# Altium footprint library Daxxn_Displays.PcbLib: 9 footprints
Each footprint in its own frame and in the unit in brackets; x right, y up, seen from the top. Pads: shape width x height; smd on the part's side, far side on the other; paste and mask are expansions set on the pad; w line width, h text height; cw(c..) or ccw(c..) is an arc to the next point about the centre after c.
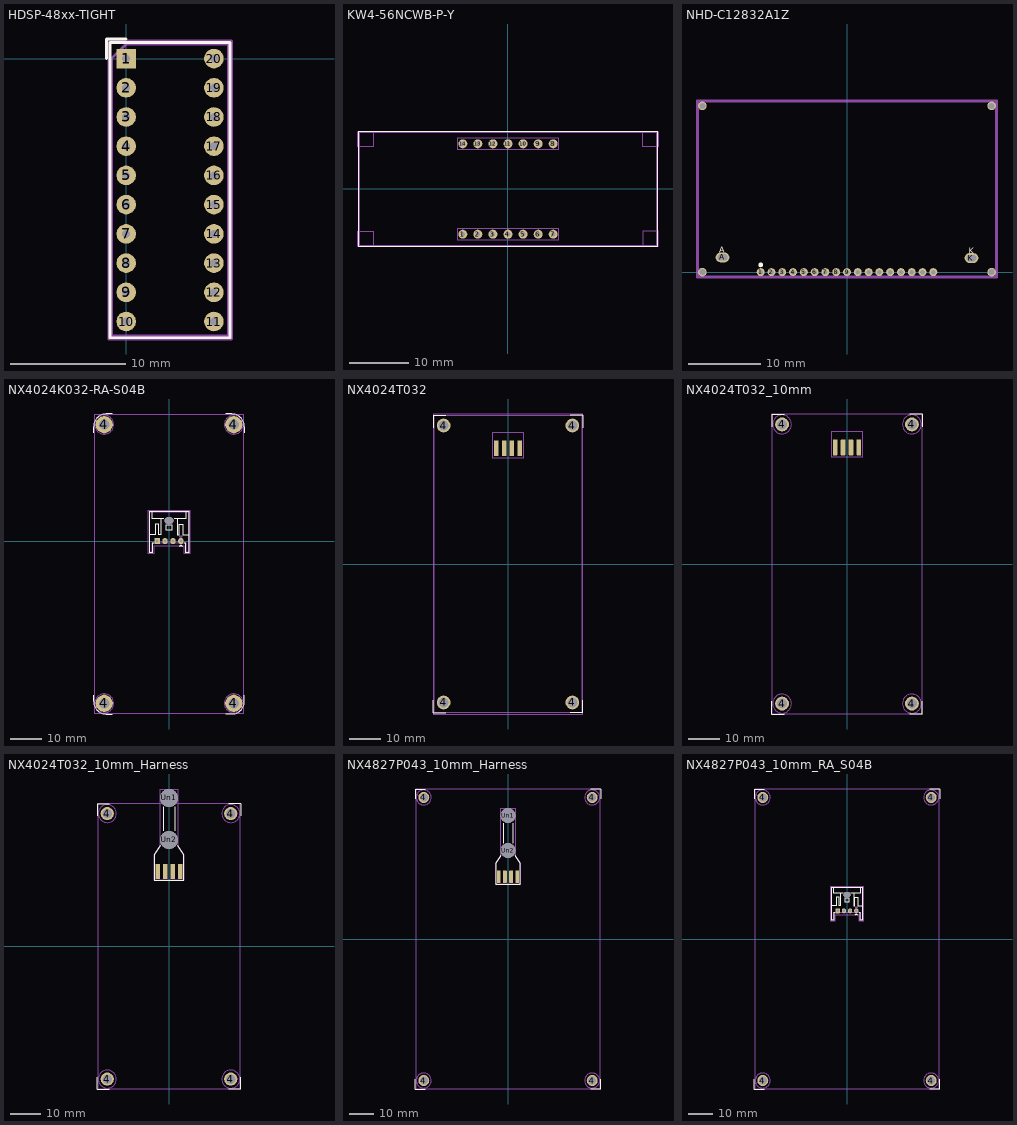
[diagram p0: the footprints below, top view; thin cyan lines are the x and y axes]

## HDSP-48xx-TIGHT [mm]
pads (20):
  rect 1.7x1.7 hole 0.7: 1(0,0)
  round 1.7 hole 0.7: 2(0,-2.54) 3(0,-5.08) 4(0,-7.62) 5(0,-10.16) 6(0,-12.7) 7(0,-15.24) 8(0,-17.78) 9(0,-20.32) 10(0,-22.86) 11(7.62,-22.86) 12(7.62,-20.32) 13(7.62,-17.78) 14(7.62,-15.24) 15(7.62,-12.7) 16(7.62,-10.16) 17(7.62,-7.62) 18(7.62,-5.08) 19(7.62,-2.54) 20(7.62,0)
F.SilkS:
  lines w0.254: -1.7,0 -1.7,1.7 0,1.7 ; -1.41,-24.27 -1.41,1.41 9.03,1.41 9.03,-24.27 -1.41,-24.27
F.CrtYd:
  lines w0.254: -1.52,-24.38 -1.52,1.52 9.14,1.52 9.14,-24.38 -1.52,-24.38
F.Fab:
  lines w0.254: -1.27,-24.13 -1.27,0 0,1.27 8.89,1.27 8.89,-24.13 -1.27,-24.13
  text "'.Designator'" at 1.952,-12.445 h0.5

## KW4-56NCWB-P-Y [mil]
pads (14):
  round 60 hole 30: 1(-300,-300) 2(-200,-300) 3(-100,-300) 4(0,-300) 5(100,-300) 6(200,-300) 7(300,-300) 8(300,300) 9(200,300) 10(100,300) 11(0,300) 12(-100,300) 13(-200,300) 14(-300,300)
F.SilkS:
  lines w4.72: -994,-380 -994,380 994,380 994,-380 -994,-380
F.CrtYd:
  lines w1.97: -995,-380 -995,-280 -895,-280 -895,-380 -995,-380 ; -995,280 -995,380 -895,380 -895,280 -995,280 ; -335,-335 -335,-265 335,-265 335,-335 -335,-335 ; -335,265 -335,335 335,335 335,265 -335,265 ; 895,-380 895,-280 995,-280 995,-380 895,-380 ; 895,280 995,280 995,380 895,380 895,280
F.Fab:
  lines w3.94: -988.19,-374.02 -988.19,374.02 988.19,374.02 988.19,-374.02 -988.19,-374.02
  text "'.Designator'" at -39.34,2.22 h9.84

## NHD-C12832A1Z [mm]
pads (23):
  round 1.1 hole 0.64: 1(-12,0) 2(-10.5,0) 3(-9,0) 4(-7.5,0) 5(-6,0) 6(-4.5,0) 7(-3,0) 8(-1.5,0) 9(0,0) 10(1.5,0) 11(3,0) 12(4.5,0) 13(6,0) 14(7.5,0) 15(9,0) 16(10.5,0) 17(12,0)
  rrect100% 1.9x1.38 hole 0.85 slot 1.35 at 0 deg: A(-17.3,2.04) K(17.3,1.95)
  round 1.2 hole 0.8: Un1(-20.1,23.1) Un2(-20.1,0) Un3(20.1,23.1) Un4(20.1,0)
F.SilkS:
  circle w0.254: c-12,1 r0.2
  region: -11.922,1.188 -11.856,1.144 -11.812,1.078 -11.796,1 -11.812,0.922 -11.856,0.856 -11.922,0.812 -12,0.796 -12.078,0.812 -12.144,0.856 -12.188,0.922 -12.204,1 -12.188,1.078 -12.144,1.144 -12.078,1.188 -12,1.204
  text "A" at -17.73,2.675 h0.8
  text "K" at 16.908,2.575 h0.8
F.CrtYd:
  lines w0.254: -20.85,-0.75 -20.85,23.85 20.85,23.85 20.85,-0.75 -20.85,-0.75
F.Fab:
  lines w0.254: -20.7,-0.6 -20.7,23.7 20.7,23.7 20.7,-0.6 -20.7,-0.6
  text "'.Designator'" at -4.047,2.16 h1

## NX4024K032-RA-S04B [mm]
pads (9):
  rrect15% 1.7x1.95 hole 0.95: 1(-3.75,0)
  rrect100% 1.7x1.95 hole 0.95: 2(-1.25,0) 3(1.25,0) 4(3.75,0)
  round 5.5 hole 3.2: 4(-20.6,-51.6) 4(-20.6,37) 4(20.6,-51.6) 4(20.6,37)
  rrect100% 2.8x2 hole 2 slot 2.8 at 0 deg: Un1(0,6.5)
F.SilkS:
  lines w0.254: -24,-49 -24,-51 ccw(c-20,-51) -20,-55 -18,-55 ; -24,34.4 -24,36.4 cw(c-20,36.4) -20,40.4 -18,40.4 ; -6.36,2 -4.3,2 -4.3,5.41 -3.2,5.41 -3.2,2 -2.7,2 -2.7,7.01 ; -5.25,9.31 -5.25,7.01 -1.6,7.01 ; -4.86,-0.61 -5.14,-0.61 -5.14,-3.51 -6.36,-3.51 -6.36,9.31 6.36,9.31 6.36,-3.51 5.14,-3.51 5.14,-0.61 4.86,-0.61 ; 1.6,7.01 5.25,7.01 5.25,9.31 ; 2.7,7.01 2.7,2 3.2,2 3.2,5.41 4.3,5.41 4.3,2 6.36,2 ; 18,-55 20,-55 ccw(c20,-51) 24,-51 24,-49 ; 18,40.4 20,40.4 cw(c20,36.4) 24,36.4 24,34.4 ; -0.8,3.4 -0.8,5.2 0.8,5.2 0.8,3.4 -0.8,3.4 ; 3.35,-1.6 3.75,-1.2 4.15,-1.6 3.35,-1.6
F.CrtYd:
  circle w0.254: c-20.6,37 r3
  circle w0.254: c-20.6,-51.6 r3
  circle w0.254: c20.6,37 r3
  circle w0.254: c20.6,-51.6 r3
  lines w0.254: -6.75,-3.9 -6.75,9.7 6.75,9.7 6.75,-3.9 4.75,-3.9 4.75,-1.48 -4.75,-1.48 -4.75,-3.9 -6.75,-3.9
F.Fab:
  lines w0.254: -23.8,-54.8 -23.8,40.2 23.8,40.2 23.8,-54.8 -23.8,-54.8 ; -6.25,-3.4 -6.25,9.2 6.25,9.2 6.25,-3.4 5.25,-3.4 5.25,-0.5 -5.25,-0.5 -5.25,-3.4 -6.25,-3.4 ; 3.25,1.475 3.75,0.975 4.25,1.475 3.25,1.475
  text "'.Designator'" at -4.047,1.66 h1
  text "'.Designator'" at -4.047,36.86 h1

## NX4024T032 [mm]
pads (8):
  rrect20% 1.5x5 smd: 1(-3.75,37) 2(-1.25,37) 3(1.25,37) 4(3.75,37)
  round 4.4 hole 3.2: 4(-20.6,-44.3) 4(-20.6,44.3) 4(20.6,-44.3) 4(20.6,44.3)
F.SilkS:
  lines w0.254: -23.9,-43.6 -23.9,-47.6 -19.9,-47.6 ; -23.9,43.6 -23.9,47.6 -19.9,47.6 ; 19.9,-47.6 23.9,-47.6 23.9,-43.6 ; 19.9,47.6 23.9,47.6 23.9,43.6
F.CrtYd:
  lines w0.254: -24,-48 -24,48 24,48 24,-48 -24,-48 ; -5,34 -5,42 5,42 5,34 -5,34
F.Fab:
  lines w0.254: -23.8,-47.5 -23.8,47.5 23.8,47.5 23.8,-47.5 -23.8,-47.5
  text "'.Designator'" at -4.047,44.16 h1

## NX4024T032_10mm [mm]
pads (8):
  rrect20% 1.5x5 smd: 1(-3.75,37) 2(-1.25,37) 3(1.25,37) 4(3.75,37)
  round 4.4 hole 3.2: 4(-20.6,-44.3) 4(-20.6,44.3) 4(20.6,-44.3) 4(20.6,44.3)
F.SilkS:
  lines w0.254: -23.9,-43.6 -23.9,-47.6 -19.9,-47.6 ; -23.9,43.6 -23.9,47.6 -19.9,47.6 ; 19.9,-47.6 23.9,-47.6 23.9,-43.6 ; 19.9,47.6 23.9,47.6 23.9,43.6
F.CrtYd:
  circle w0.254: c-20.6,44.3 r3
  circle w0.254: c-20.6,-44.3 r3
  circle w0.254: c20.6,44.3 r3
  circle w0.254: c20.6,-44.3 r3
  lines w0.254: -5,34 -5,42 5,42 5,34 -5,34
F.Fab:
  lines w0.254: -23.8,-47.5 -23.8,47.5 23.8,47.5 23.8,-47.5 -23.8,-47.5
  text "'.Designator'" at -4.047,44.16 h1

## NX4024T032_10mm_Harness [mm]
pads (10):
  rrect20% 1.5x5 smd: 1(-3.75,25) 2(-1.25,25) 3(1.25,25) 4(3.75,25)
  round 4.4 hole 3.2: 4(-20.6,-44.3) 4(-20.6,44.3) 4(20.6,-44.3) 4(20.6,44.3)
  round 6 hole 6: Un1(0,49.5) Un2(0,35.5)
F.SilkS:
  lines w0.254: -23.9,-43.6 -23.9,-47.6 -19.9,-47.6 ; -23.9,43.6 -23.9,47.6 -19.9,47.6 ; -3,33.5 -5,30.5 -5,22 5,22 5,30.5 3,33.5 ; -2,38.5 -2,46.5 ; 2,38.5 2,46.5 ; 19.9,-47.6 23.9,-47.6 23.9,-43.6 ; 19.9,47.6 23.9,47.6 23.9,43.6
F.CrtYd:
  circle w0.254: c-20.6,44.3 r3
  circle w0.254: c-20.6,-44.3 r3
  circle w0.254: c20.6,44.3 r3
  circle w0.254: c20.6,-44.3 r3
  lines w0.254: -5,22 -5,30.5 -3,33.5 -3,52.5 3,52.5 3,33.5 5,30.5 5,22 -5,22
F.Fab:
  lines w0.254: -23.8,-47.5 -23.8,47.5 23.8,47.5 23.8,-47.5 -23.8,-47.5
  text "'.Designator'" at -4.047,8.66 h1

## NX4827P043_10mm_Harness [mm]
pads (10):
  rrect20% 1.5x5 smd: 1(-3.75,25) 2(-1.25,25) 3(1.25,25) 4(3.75,25)
  round 4.4 hole 3.2: 4(-33.8,-56.8) 4(-33.8,56.8) 4(33.8,-56.8) 4(33.8,56.8)
  round 6 hole 6: Un1(0,49.5) Un2(0,35.5)
F.SilkS:
  lines w0.254: -37.2,-56.2 -37.2,-60.2 -33.2,-60.2 ; -37.2,56.2 -37.2,60.2 -33.2,60.2 ; -3,33.5 -5,30.5 -5,22 5,22 5,30.5 3,33.5 ; -2,38.5 -2,46.5 ; 2,38.5 2,46.5 ; 33.2,-60.2 37.2,-60.2 37.2,-56.2 ; 33.2,60.2 37.2,60.2 37.2,56.2
F.CrtYd:
  circle w0.254: c-33.8,56.8 r3
  circle w0.254: c-33.8,-56.8 r3
  circle w0.254: c33.8,56.8 r3
  circle w0.254: c33.8,-56.8 r3
  lines w0.254: -5,22 -5,30.5 -3,33.5 -3,52.5 3,52.5 3,33.5 5,30.5 5,22 -5,22
F.Fab:
  lines w0.254: -37,-60 -37,60 37,60 37,-60 -37,-60
  text "'.Designator'" at -4.047,8.66 h1

## NX4827P043_10mm_RA_S04B [mm]
pads (9):
  rrect15% 1.7x1.95 hole 0.95: 1(-3.75,11.3)
  rrect100% 1.7x1.95 hole 0.95: 2(-1.25,11.3) 3(1.25,11.3) 4(3.75,11.3)
  round 4.4 hole 3.2: 4(-33.8,-56.8) 4(-33.8,56.8) 4(33.8,-56.8) 4(33.8,56.8)
  rrect100% 2.8x2 hole 2 slot 2.8 at 0 deg: Un1(0,17.8)
F.SilkS:
  lines w0.254: -37.2,-56.2 -37.2,-60.2 -33.2,-60.2 ; -37.2,56.2 -37.2,60.2 -33.2,60.2 ; -6.36,13.3 -4.3,13.3 -4.3,16.71 -3.2,16.71 -3.2,13.3 -2.7,13.3 -2.7,18.31 ; -5.25,20.61 -5.25,18.31 -1.6,18.31 ; -4.86,10.69 -5.14,10.69 -5.14,7.79 -6.36,7.79 -6.36,20.61 6.36,20.61 6.36,7.79 5.14,7.79 5.14,10.69 4.86,10.69 ; 1.6,18.31 5.25,18.31 5.25,20.61 ; 2.7,18.31 2.7,13.3 3.2,13.3 3.2,16.71 4.3,16.71 4.3,13.3 6.36,13.3 ; 33.2,-60.2 37.2,-60.2 37.2,-56.2 ; 33.2,60.2 37.2,60.2 37.2,56.2 ; -0.8,14.7 -0.8,16.5 0.8,16.5 0.8,14.7 -0.8,14.7 ; 3.35,9.7 3.75,10.1 4.15,9.7 3.35,9.7
F.CrtYd:
  circle w0.254: c-33.8,56.8 r3
  circle w0.254: c-33.8,-56.8 r3
  circle w0.254: c33.8,56.8 r3
  circle w0.254: c33.8,-56.8 r3
  lines w0.254: -6.75,7.4 -6.75,21 6.75,21 6.75,7.4 4.75,7.4 4.75,9.82 -4.75,9.82 -4.75,7.4 -6.75,7.4
F.Fab:
  lines w0.254: -37,-60 -37,60 37,60 37,-60 -37,-60 ; -6.25,7.9 -6.25,20.5 6.25,20.5 6.25,7.9 5.25,7.9 5.25,10.8 -5.25,10.8 -5.25,7.9 -6.25,7.9 ; 3.25,12.775 3.75,12.275 4.25,12.775 3.25,12.775
  text "'.Designator'" at -4.047,6.76 h1